# Altium schematic symbol library SCH - DRIVER - LED - TI LM3410XMF.SchLib: 1 symbol
Pins are listed as number, name and electrical type; pins without a type are passive.

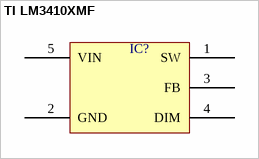
[diagram p0: symbol TI LM3410XMF]

## TI LM3410XMF
designator IC?  (value not drawn)
pins: 1 SW, 2 GND, 3 FB, 4 DIM, 5 VIN